# EAGLE library part CONN-2X3 (library vincent)
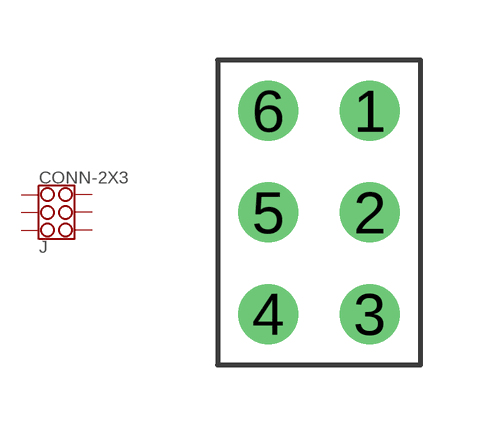
[diagram p3: symbol with the pads of CONN-2X3-2.54; footprint CONN-2X3-2.54]

Designator prefix J

## CONN-2X3  [CONN-2X3-2.54]
1  1
2  2
3  3
4  4
5  5
6  6

## Footprint CONN-2X3-2.54 (pad centres in mm)
drill 0.8 pad 1.5: 1 1.27,2.54; 2 1.27,0; 3 1.27,-2.54; 4 -1.27,-2.54; 5 -1.27,0; 6 -1.27,2.54